# Altium footprint library QF.PcbLib: 196 footprints (part 6 of 13)
Each footprint in its own frame and in the unit in brackets; x right, y up, seen from the top. Pads: shape width x height; smd on the part's side, far side on the other; paste and mask are expansions set on the pad; w line width, h text height; cw(c..) or ccw(c..) is an arc to the next point about the centre after c.
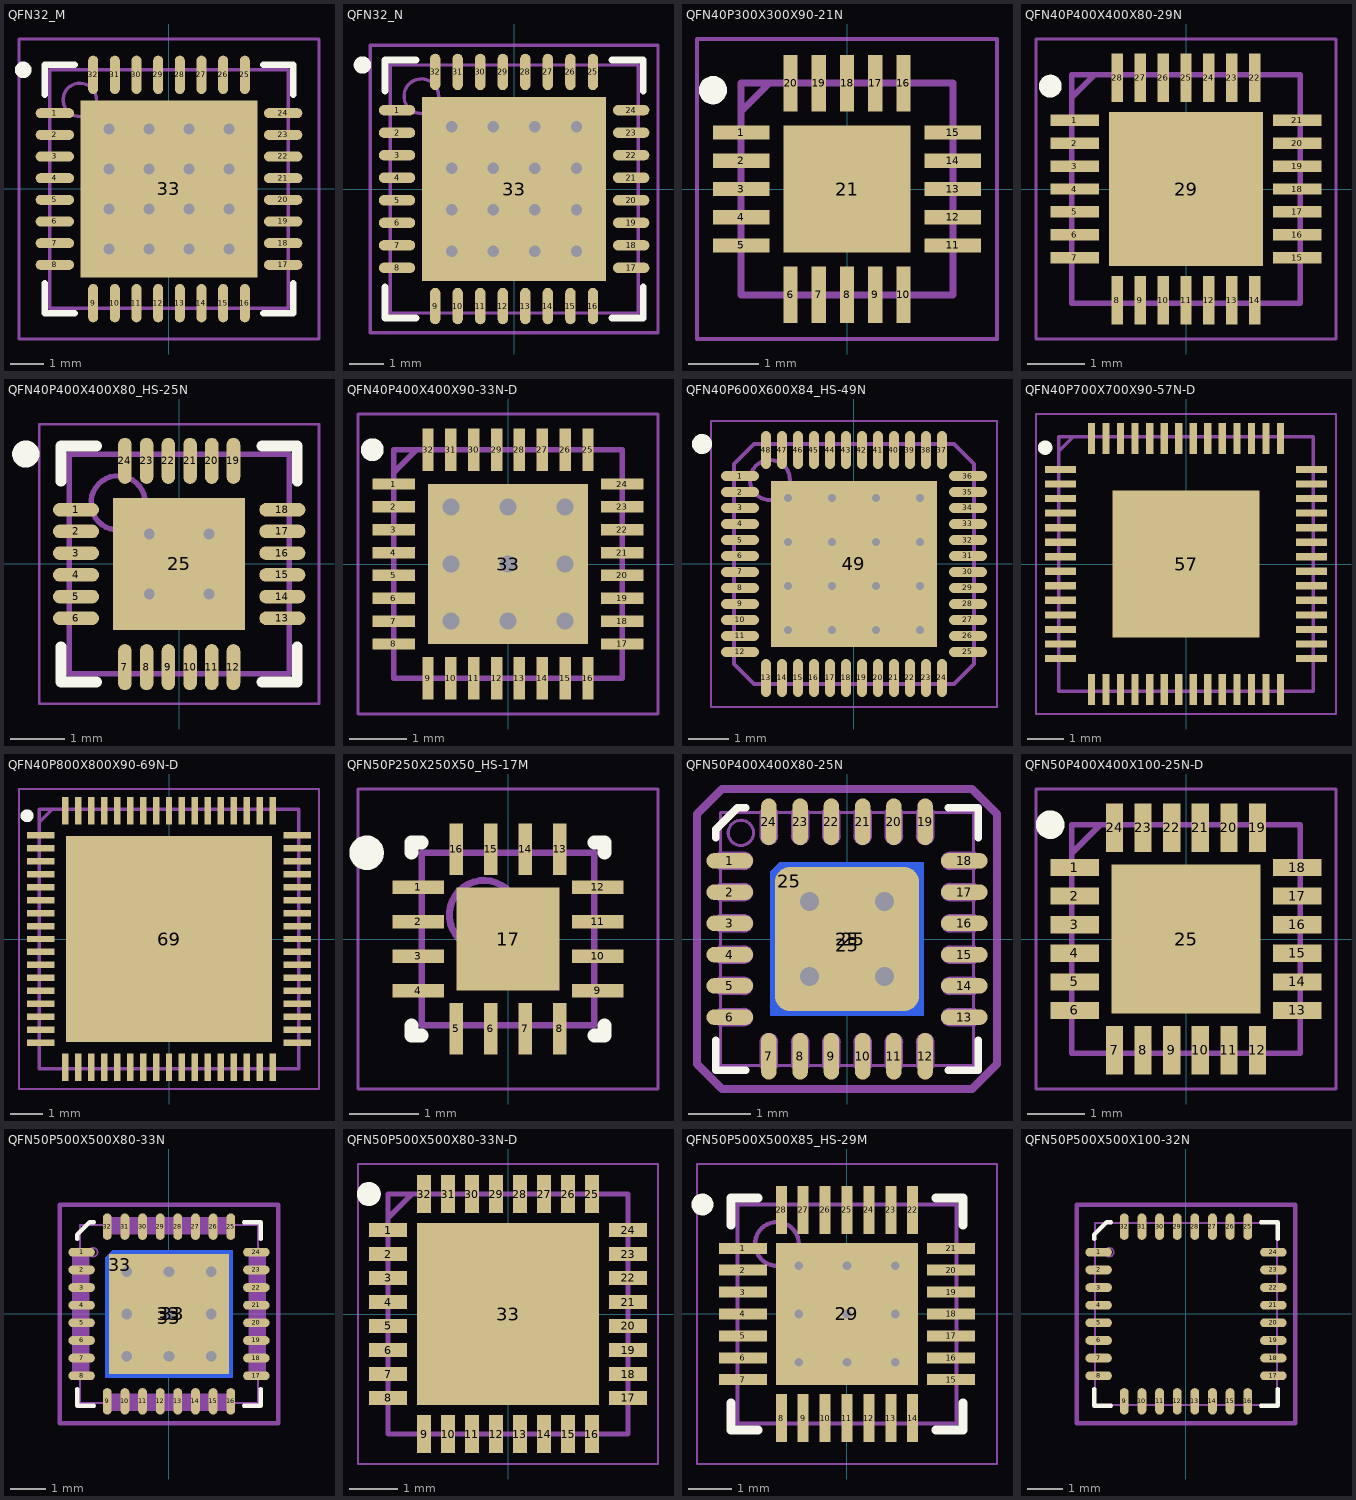
[diagram p5: the footprints below, top view; thin cyan lines are the x and y axes]

## QFN32_M [mm] "QFN, 32-Leads, Body 7x7 mm, Pitch 0.65mm, IPC Low Density"
height 1
pads (33):
  oval 1.15x0.3 smd: 1(-3.425,2.275) 2(-3.425,1.625) 3(-3.425,0.975) 4(-3.425,0.325) 5(-3.425,-0.325) 6(-3.425,-0.975) 7(-3.425,-1.625) 8(-3.425,-2.275) 17(3.425,-2.275) 18(3.425,-1.625) 19(3.425,-0.975) 20(3.425,-0.325) 21(3.425,0.325) 22(3.425,0.975) 23(3.425,1.625) 24(3.425,2.275)
  oval 0.3x1.15 smd: 9(-2.275,-3.425) 10(-1.625,-3.425) 11(-0.975,-3.425) 12(-0.325,-3.425) 13(0.325,-3.425) 14(0.975,-3.425) 15(1.625,-3.425) 16(2.275,-3.425) 25(2.275,3.425) 26(1.625,3.425) 27(0.975,3.425) 28(0.325,3.425) 29(-0.325,3.425) 30(-0.975,3.425) 31(-1.625,3.425) 32(-2.275,3.425)
  rect 5.3x5.3 smd: 33(0,0)
via -1.8,1.8 diameter 0.66 hole 0.33
via -0.6,1.8 diameter 0.66 hole 0.33
via 0.6,1.8 diameter 0.66 hole 0.33
via 1.8,1.8 diameter 0.66 hole 0.33
via -1.8,0.6 diameter 0.66 hole 0.33
via -0.6,0.6 diameter 0.66 hole 0.33
via 0.6,0.6 diameter 0.66 hole 0.33
via 1.8,0.6 diameter 0.66 hole 0.33
via -1.8,-0.6 diameter 0.66 hole 0.33
via -0.6,-0.6 diameter 0.66 hole 0.33
via 0.6,-0.6 diameter 0.66 hole 0.33
via 1.8,-0.6 diameter 0.66 hole 0.33
via -1.8,-1.8 diameter 0.66 hole 0.33
via -0.6,-1.8 diameter 0.66 hole 0.33
via 0.6,-1.8 diameter 0.66 hole 0.33
via 1.8,-1.8 diameter 0.66 hole 0.33
Top Overlay:
  circle w0.25: c-4.375,3.575 r0.125
  lines w0.2: -3.725,-2.825 -3.725,-3.725 -2.825,-3.725 ; -3.725,2.825 -3.725,3.725 -2.825,3.725 ; 2.825,-3.725 3.725,-3.725 3.725,-2.825 ; 2.825,3.725 3.725,3.725 3.725,2.825
Mechanical 13:
  circle w0.1: c-2.675,2.675 r0.5
  lines w0.1: -3.575,-3.575 -3.575,3.575 3.575,3.575 3.575,-3.575 -3.575,-3.575
Mechanical 15:
  lines w0.1: -0.5,0 0.5,0 ; 0,-0.5 0,0.5 ; -4.5,-4.5 -4.5,4.5 4.5,4.5 4.5,-4.5 -4.5,-4.5
3D body: height 1, standoff 0, extent -3.575,-3.575 3.575,3.575

## QFN32_N [mm] "QFN, 32-Leads, Body 7x7 mm, Pitch 0.65mm, IPC Medium Density"
height 1
pads (33):
  oval 1.05x0.3 smd: 1(-3.375,2.275) 2(-3.375,1.625) 3(-3.375,0.975) 4(-3.375,0.325) 5(-3.375,-0.325) 6(-3.375,-0.975) 7(-3.375,-1.625) 8(-3.375,-2.275) 17(3.375,-2.275) 18(3.375,-1.625) 19(3.375,-0.975) 20(3.375,-0.325) 21(3.375,0.325) 22(3.375,0.975) 23(3.375,1.625) 24(3.375,2.275)
  oval 0.3x1.05 smd: 9(-2.275,-3.375) 10(-1.625,-3.375) 11(-0.975,-3.375) 12(-0.325,-3.375) 13(0.325,-3.375) 14(0.975,-3.375) 15(1.625,-3.375) 16(2.275,-3.375) 25(2.275,3.375) 26(1.625,3.375) 27(0.975,3.375) 28(0.325,3.375) 29(-0.325,3.375) 30(-0.975,3.375) 31(-1.625,3.375) 32(-2.275,3.375)
  rect 5.3x5.3 smd: 33(0,0)
via 1.8,-1.8 diameter 0.66 hole 0.33
via 0.6,-1.8 diameter 0.66 hole 0.33
via -0.6,-1.8 diameter 0.66 hole 0.33
via -1.8,-1.8 diameter 0.66 hole 0.33
via 1.8,-0.6 diameter 0.66 hole 0.33
via 0.6,-0.6 diameter 0.66 hole 0.33
via -0.6,-0.6 diameter 0.66 hole 0.33
via -1.8,-0.6 diameter 0.66 hole 0.33
via 1.8,0.6 diameter 0.66 hole 0.33
via 0.6,0.6 diameter 0.66 hole 0.33
via -0.6,0.6 diameter 0.66 hole 0.33
via -1.8,0.6 diameter 0.66 hole 0.33
via 1.8,1.8 diameter 0.66 hole 0.33
via 0.6,1.8 diameter 0.66 hole 0.33
via -0.6,1.8 diameter 0.66 hole 0.33
via -1.8,1.8 diameter 0.66 hole 0.33
Top Overlay:
  circle w0.25: c-4.375,3.575 r0.125
  lines w0.2: -3.725,-2.825 -3.725,-3.725 -2.825,-3.725 ; -3.725,2.825 -3.725,3.725 -2.825,3.725 ; 2.825,-3.725 3.725,-3.725 3.725,-2.825 ; 2.825,3.725 3.725,3.725 3.725,2.825
Mechanical 13:
  circle w0.1: c-2.675,2.675 r0.5
  lines w0.1: -3.575,-3.575 3.575,-3.575 3.575,3.575 -3.575,3.575 -3.575,-3.575
Mechanical 15:
  lines w0.1: -0.5,0 0.5,0 ; 0,-0.5 0,0.5 ; -4.15,-4.15 4.15,-4.15 4.15,4.15 -4.15,4.15 -4.15,-4.15
3D body: height 1, standoff 0, extent -3.575,-3.575 3.575,3.575

## QFN40P300X300X90-21N [mm]
pads (21):
  rect 0.8x0.2 smd: 1(-1.5,0.8) 2(-1.5,0.4) 3(-1.5,0) 4(-1.5,-0.4) 5(-1.5,-0.8) 11(1.5,-0.8) 12(1.5,-0.4) 13(1.5,0) 14(1.5,0.4) 15(1.5,0.8)
  rect 0.2x0.8 smd: 6(-0.8,-1.5) 7(-0.4,-1.5) 8(0,-1.5) 9(0.4,-1.5) 10(0.8,-1.5) 16(0.8,1.5) 17(0.4,1.5) 18(0,1.5) 19(-0.4,1.5) 20(-0.8,1.5)
  rect 1.8x1.8 smd: 21(0,0)
Top Overlay:
  circle w0.2: c-1.9,1.4 r0.1
Mechanical 13:
  lines w0.1: -1.5,1.1 -1.1,1.5 ; -1.5,-1.5 -1.5,1.5 1.5,1.5 1.5,-1.5 -1.5,-1.5
Mechanical 15:
  lines w0.05: -2.125,-2.125 -2.125,2.125 2.125,2.125 2.125,-2.125 -2.125,-2.125
3D body "ATTINY1616-MNR.stp": height 0.9, standoff 0, extent -1.55,-1.55 1.55,1.55

## QFN40P400X400X80-29N [mm]
pads (29):
  rect 0.85x0.2 smd: 1(-1.95,1.2) 2(-1.95,0.8) 3(-1.95,0.4) 4(-1.95,0) 5(-1.95,-0.4) 6(-1.95,-0.8) 7(-1.95,-1.2) 15(1.95,-1.2) 16(1.95,-0.8) 17(1.95,-0.4) 18(1.95,0) 19(1.95,0.4) 20(1.95,0.8) 21(1.95,1.2)
  rect 0.2x0.85 smd: 8(-1.2,-1.95) 9(-0.8,-1.95) 10(-0.4,-1.95) 11(0,-1.95) 12(0.4,-1.95) 13(0.8,-1.95) 14(1.2,-1.95) 22(1.2,1.95) 23(0.8,1.95) 24(0.4,1.95) 25(0,1.95) 26(-0.4,1.95) 27(-0.8,1.95) 28(-1.2,1.95)
  rect 2.7x2.7 smd: 29(0,0)
Top Overlay:
  circle w0.2: c-2.375,1.8 r0.1
Mechanical 13:
  lines w0.1: -2,1.6 -1.6,2 ; -2,-2 2,-2 2,2 -2,2 -2,-2
Mechanical 15:
  lines w0.05: -2.625,-2.625 2.625,-2.625 2.625,2.625 -2.625,2.625 -2.625,-2.625
3D body "MAX8903AETI+.stp": height 0.8, standoff 0, extent -2.05,-2.05 2.05,2.05

## QFN40P400X400X80_HS-25N [mm] "QFN, 24-Leads, Body 4,00x4,00mm, Pitch 0,40mm, Thermal Pad 2,43x2,43mm, IPC Medium Density"
height 0.8
pads (25):
  oval 0.85x0.25 smd: 1(-1.9,1) 2(-1.9,0.6) 3(-1.9,0.2) 4(-1.9,-0.2) 5(-1.9,-0.6) 6(-1.9,-1) 13(1.9,-1) 14(1.9,-0.6) 15(1.9,-0.2) 16(1.9,0.2) 17(1.9,0.6) 18(1.9,1)
  oval 0.25x0.85 smd: 7(-1,-1.9) 8(-0.6,-1.9) 9(-0.2,-1.9) 10(0.2,-1.9) 11(0.6,-1.9) 12(1,-1.9) 19(1,1.9) 20(0.6,1.9) 21(0.2,1.9) 22(-0.2,1.9) 23(-0.6,1.9) 24(-1,1.9)
  rect 2.43x2.43 smd: 25(0,0)
via -0.55,0.55 diameter 0.5 hole 0.2
via 0.55,0.55 diameter 0.5 hole 0.2
via -0.55,-0.55 diameter 0.5 hole 0.2
via 0.55,-0.55 diameter 0.5 hole 0.2
Top Overlay:
  circle w0.25: c-2.825,2.025 r0.125
  lines w0.2: -2.175,-1.525 -2.175,-2.175 -1.525,-2.175 ; -2.175,1.525 -2.175,2.175 -1.525,2.175 ; 1.525,-2.175 2.175,-2.175 2.175,-1.525 ; 1.525,2.175 2.175,2.175 2.175,1.525
Mechanical 13:
  circle w0.1: c-1.125,1.125 r0.5
  lines w0.1: -2.025,-2.025 -2.025,2.025 2.025,2.025 2.025,-2.025 -2.025,-2.025
Mechanical 15:
  lines w0.05: -2.575,-2.575 -2.575,2.575 2.575,2.575 2.575,-2.575 -2.575,-2.575
  lines w0.1: -0.5,0 0.5,0 ; 0,-0.5 0,0.5
3D body "QFN40P400X400X80_HS-25N.step": height 0.8, standoff 0, extent -2.035,-2.035 2.035,2.035

## QFN40P400X400X90-33N-D [mm]
pads (33):
  rect 0.75x0.2 smd: 1(-2,1.4) 2(-2,1) 3(-2,0.6) 4(-2,0.2) 5(-2,-0.2) 6(-2,-0.6) 7(-2,-1) 8(-2,-1.4) 17(2,-1.4) 18(2,-1) 19(2,-0.6) 20(2,-0.2) 21(2,0.2) 22(2,0.6) 23(2,1) 24(2,1.4)
  rect 0.2x0.75 smd: 9(-1.4,-2) 10(-1,-2) 11(-0.6,-2) 12(-0.2,-2) 13(0.2,-2) 14(0.6,-2) 15(1,-2) 16(1.4,-2) 25(1.4,2) 26(1,2) 27(0.6,2) 28(0.2,2) 29(-0.2,2) 30(-0.6,2) 31(-1,2) 32(-1.4,2)
  rect 2.8x2.8 smd: 33(0,0)
via 0,0 diameter 0.6 hole 0.3
via 0,1 diameter 0.6 hole 0.3
via 1,0 diameter 0.6 hole 0.3
via 1,-1 diameter 0.6 hole 0.3
via 0,-1 diameter 0.6 hole 0.3
via -1,-1 diameter 0.6 hole 0.3
via -1,0 diameter 0.6 hole 0.3
via -1,1 diameter 0.6 hole 0.3
via 1,1 diameter 0.6 hole 0.3
Top Overlay:
  circle w0.2: c-2.375,2 r0.1
Mechanical 13:
  lines w0.1: -2,1.6 -1.6,2 ; -2,-2 -2,2 2,2 2,-2 -2,-2
Mechanical 15:
  lines w0.05: -2.625,-2.625 -2.625,2.625 2.625,2.625 2.625,-2.625 -2.625,-2.625
3D body "EFR32MG21B010F512IM32-B.stp": height 0.9, standoff 0, extent -2.05,-2.05 2.05,2.05

## QFN40P600X600X84_HS-49N [mm] "QFN, 48-Leads, Body 6,00x6,00mm, Pitch 0,40mm, Thermal Pad 4,14x4,14mm, IPC Medium Density"
height 0.84
pads (49):
  oval 0.95x0.25 smd: 1(-2.85,2.2) 2(-2.85,1.8) 3(-2.85,1.4) 4(-2.85,1) 5(-2.85,0.6) 6(-2.85,0.2) 7(-2.85,-0.2) 8(-2.85,-0.6) 9(-2.85,-1) 10(-2.85,-1.4) 11(-2.85,-1.8) 12(-2.85,-2.2) 25(2.85,-2.2) 26(2.85,-1.8) 27(2.85,-1.4) 28(2.85,-1) 29(2.85,-0.6) 30(2.85,-0.2) 31(2.85,0.2) 32(2.85,0.6) 33(2.85,1) 34(2.85,1.4) 35(2.85,1.8) 36(2.85,2.2)
  oval 0.25x0.95 smd: 13(-2.2,-2.85) 14(-1.8,-2.85) 15(-1.4,-2.85) 16(-1,-2.85) 17(-0.6,-2.85) 18(-0.2,-2.85) 19(0.2,-2.85) 20(0.6,-2.85) 21(1,-2.85) 22(1.4,-2.85) 23(1.8,-2.85) 24(2.2,-2.85) 37(2.2,2.85) 38(1.8,2.85) 39(1.4,2.85) 40(1,2.85) 41(0.6,2.85) 42(0.2,2.85) 43(-0.2,2.85) 44(-0.6,2.85) 45(-1,2.85) 46(-1.4,2.85) 47(-1.8,2.85) 48(-2.2,2.85)
  rect 4.14x4.14 smd: 49(0,0)
via 1.65,-1.65 diameter 0.5 hole 0.2
via 0.55,-1.65 diameter 0.5 hole 0.2
via -0.55,-1.65 diameter 0.5 hole 0.2
via -1.65,-1.65 diameter 0.5 hole 0.2
via 1.65,-0.55 diameter 0.5 hole 0.2
via 0.55,-0.55 diameter 0.5 hole 0.2
via -0.55,-0.55 diameter 0.5 hole 0.2
via -1.65,-0.55 diameter 0.5 hole 0.2
via 1.65,0.55 diameter 0.5 hole 0.2
via 0.55,0.55 diameter 0.5 hole 0.2
via -0.55,0.55 diameter 0.5 hole 0.2
via -1.65,0.55 diameter 0.5 hole 0.2
via 1.65,1.65 diameter 0.5 hole 0.2
via 0.55,1.65 diameter 0.5 hole 0.2
via -0.55,1.65 diameter 0.5 hole 0.2
via -1.65,1.65 diameter 0.5 hole 0.2
Top Overlay:
  circle w0.25: c-3.8,3 r0.125
Mechanical 13:
  circle w0.1: c-2.1,2.1 r0.5
  lines w0.1: -3,-2.5 -3,2.5 -2.5,3 2.5,3 3,2.5 3,-2.5 2.5,-3 -2.5,-3 -3,-2.5
Mechanical 15:
  lines w0.05: -3.575,-3.575 3.575,-3.575 3.575,3.575 -3.575,3.575 -3.575,-3.575
  lines w0.1: -0.5,0 0.5,0 ; 0,-0.5 0,0.5
3D body "QFN40P600X600X84_HS-49N.step": height 0.84, standoff 0, extent -3.01,-3.01 3.01,3.01

## QFN40P700X700X90-57N-D [mm]
pads (57):
  rect 0.85x0.2 smd: 1(-3.45,2.6) 2(-3.45,2.2) 3(-3.45,1.8) 4(-3.45,1.4) 5(-3.45,1) 6(-3.45,0.6) 7(-3.45,0.2) 8(-3.45,-0.2) 9(-3.45,-0.6) 10(-3.45,-1) 11(-3.45,-1.4) 12(-3.45,-1.8) 13(-3.45,-2.2) 14(-3.45,-2.6) 29(3.45,-2.6) 30(3.45,-2.2) 31(3.45,-1.8) 32(3.45,-1.4) 33(3.45,-1) 34(3.45,-0.6) 35(3.45,-0.2) 36(3.45,0.2) 37(3.45,0.6) 38(3.45,1) 39(3.45,1.4) 40(3.45,1.8) 41(3.45,2.2) 42(3.45,2.6)
  rect 0.2x0.85 smd: 15(-2.6,-3.45) 16(-2.2,-3.45) 17(-1.8,-3.45) 18(-1.4,-3.45) 19(-1,-3.45) 20(-0.6,-3.45) 21(-0.2,-3.45) 22(0.2,-3.45) 23(0.6,-3.45) 24(1,-3.45) 25(1.4,-3.45) 26(1.8,-3.45) 27(2.2,-3.45) 28(2.6,-3.45) 43(2.6,3.45) 44(2.2,3.45) 45(1.8,3.45) 46(1.4,3.45) 47(1,3.45) 48(0.6,3.45) 49(0.2,3.45) 50(-0.2,3.45) 51(-0.6,3.45) 52(-1,3.45) 53(-1.4,3.45) 54(-1.8,3.45) 55(-2.2,3.45) 56(-2.6,3.45)
  rect 4.05x4.05 smd: 57(0,0)
Top Overlay:
  circle w0.2: c-3.875,3.2 r0.1
Mechanical 13:
  lines w0.1: -3.5,3.1 -3.1,3.5 ; -3.5,-3.5 3.5,-3.5 3.5,3.5 -3.5,3.5 -3.5,-3.5
Mechanical 15:
  lines w0.05: -4.125,-4.125 4.125,-4.125 4.125,4.125 -4.125,4.125 -4.125,-4.125
3D body "ESP32-S3R8V.stp": height 0.9, standoff 0, extent -3.55,-3.55 3.55,3.55

## QFN40P800X800X90-69N-D [mm]
pads (69):
  rect 0.85x0.2 smd: 1(-3.95,3.2) 2(-3.95,2.8) 3(-3.95,2.4) 4(-3.95,2) 5(-3.95,1.6) 6(-3.95,1.2) 7(-3.95,0.8) 8(-3.95,0.4) 9(-3.95,0) 10(-3.95,-0.4) 11(-3.95,-0.8) 12(-3.95,-1.2) 13(-3.95,-1.6) 14(-3.95,-2) 15(-3.95,-2.4) 16(-3.95,-2.8) 17(-3.95,-3.2) 35(3.95,-3.2) 36(3.95,-2.8) 37(3.95,-2.4) 38(3.95,-2) 39(3.95,-1.6) 40(3.95,-1.2) 41(3.95,-0.8) 42(3.95,-0.4) 43(3.95,0) 44(3.95,0.4) 45(3.95,0.8) 46(3.95,1.2) 47(3.95,1.6) 48(3.95,2) 49(3.95,2.4) 50(3.95,2.8) 51(3.95,3.2)
  rect 0.2x0.85 smd: 18(-3.2,-3.95) 19(-2.8,-3.95) 20(-2.4,-3.95) 21(-2,-3.95) 22(-1.6,-3.95) 23(-1.2,-3.95) 24(-0.8,-3.95) 25(-0.4,-3.95) 26(0,-3.95) 27(0.4,-3.95) 28(0.8,-3.95) 29(1.2,-3.95) 30(1.6,-3.95) 31(2,-3.95) 32(2.4,-3.95) 33(2.8,-3.95) 34(3.2,-3.95) 52(3.2,3.95) 53(2.8,3.95) 54(2.4,3.95) 55(2,3.95) 56(1.6,3.95) 57(1.2,3.95) 58(0.8,3.95) 59(0.4,3.95) 60(0,3.95) 61(-0.4,3.95) 62(-0.8,3.95) 63(-1.2,3.95) 64(-1.6,3.95) 65(-2,3.95) 66(-2.4,3.95) 67(-2.8,3.95) 68(-3.2,3.95)
  rect 6.35x6.35 smd: 69(0,0)
Top Overlay:
  circle w0.2: c-4.375,3.8 r0.1
Mechanical 13:
  lines w0.1: -4,3.6 -3.6,4 ; -4,-4 -4,4 4,4 4,-4 -4,-4
Mechanical 15:
  lines w0.05: -4.625,-4.625 -4.625,4.625 4.625,4.625 4.625,-4.625 -4.625,-4.625
3D body "EFR32FG12P433F1024GM68-C.stp": height 0.9, standoff 0, extent -4.05,-4.05 4.05,4.05

## QFN50P250X250X50_HS-17M [mm] "QFN, 16-Leads, Body 2,50x2,50mm, Pitch 0,50mm, Thermal Pad 1,50x1,50mm, IPC Low Density"
height 0.5
pads (17):
  rect 0.75x0.2 smd: 1(-1.3,0.75) 2(-1.3,0.25) 3(-1.3,-0.25) 4(-1.3,-0.75) 9(1.3,-0.75) 10(1.3,-0.25) 11(1.3,0.25) 12(1.3,0.75)
  rect 0.2x0.75 smd: 5(-0.75,-1.3) 6(-0.25,-1.3) 7(0.25,-1.3) 8(0.75,-1.3) 13(0.75,1.3) 14(0.25,1.3) 15(-0.25,1.3) 16(-0.75,1.3)
  rect 1.5x1.5 smd: 17(0,0)
Top Overlay:
  circle w0.25: c-2.05,1.25 r0.125
  lines w0.2: -1.4,-1.25 -1.4,-1.4 -1.25,-1.4 ; -1.4,1.25 -1.4,1.4 -1.25,1.4 ; 1.25,-1.4 1.4,-1.4 1.4,-1.25 ; 1.25,1.4 1.4,1.4 1.4,1.25
Mechanical 13:
  circle w0.1: c-0.35,0.35 r0.5
  lines w0.1: -1.25,-1.25 -1.25,1.25 1.25,1.25 1.25,-1.25 -1.25,-1.25
Mechanical 15:
  lines w0.05: -2.175,-2.175 -2.175,2.175 2.175,2.175 2.175,-2.175 -2.175,-2.175
  lines w0.1: -0.5,0 0.5,0 ; 0,-0.5 0,0.5
3D body "QFN50P250X250X50_HS-17M.step": height 0.5, standoff 0, extent -1.3,-1.3 1.3,1.3

## QFN50P400X400X80-25N [mm] "QFN, 24-Leads with exposed die pad, Body 4.05x4.05mm (max), Pitch 0.50mm, IPC Medium Density"
height 0.8
pads (28):
  oval 0.75x0.25 smd mask+0.075: 1(-1.875,1.25) 2(-1.875,0.75) 3(-1.875,0.25) 4(-1.875,-0.25) 5(-1.875,-0.75) 6(-1.875,-1.25) 13(1.875,-1.25) 14(1.875,-0.75) 15(1.875,-0.25) 16(1.875,0.25) 17(1.875,0.75) 18(1.875,1.25)
  oval 0.25x0.75 smd mask+0.075: 7(-1.25,-1.875) 8(-0.75,-1.875) 9(-0.25,-1.875) 10(0.25,-1.875) 11(0.75,-1.875) 12(1.25,-1.875) 19(1.25,1.875) 20(0.75,1.875) 21(0.25,1.875) 22(-0.25,1.875) 23(-0.75,1.875) 24(-1.25,1.875)
  oct 0.6x0.6 smd far side paste-1.7: 25(-0.925,0.925)
  rrect1% 2.45x2.25 smd far side paste-1.7: 25(0,-0.1)
  rrect20% 2.3x2.3 smd paste-1.7: 25(0,0)
  rrect1% 2.25x2.45 smd far side paste-1.7: 25(0.1,0)
via -0.6,-0.6 diameter 0.4 hole 0.3
via 0.6,-0.6 diameter 0.4 hole 0.3
via 0.6,0.6 diameter 0.4 hole 0.3
via -0.6,0.6 diameter 0.4 hole 0.3
Top Layer:
  region: 1.025,-1.225 1.225,-1.225 1.225,1.225 1.025,1.225
  region: 1.225,-1.225 1.225,-1.025 -1.225,-1.025 -1.225,-1.225
  region: -1.225,1.075 -1.075,1.225 1.225,1.225 1.225,1.075
  region: -1.075,1.225 -1.225,1.075 -1.225,-1.225 -1.075,-1.225
Top Overlay:
  lines w0.127: -2.1,-1.625 -2.1,-2.1 -1.625,-2.1 ; -2.1,1.625 -2.1,1.75 -1.75,2.1 -1.625,2.1 ; 1.625,-2.1 2.1,-2.1 2.1,-1.625 ; 1.625,2.1 2.1,2.1 2.1,1.625
  text "." at -2.63,1.25 h0.05
Top Paste:
  region: -1.1,-0.3 -1.1,0.3 -1,0.4 -0.5,0.4 -0.4,0.5 -0.4,1 -0.3,1.1 0.3,1.1 0.4,1 0.4,0.5 0.5,0.4 1,0.4 1.1,0.3 1.1,-0.3 1,-0.4 0.5,-0.4 0.4,-0.5 0.4,-1 0.3,-1.1 -0.3,-1.1 -0.4,-1 -0.4,-0.5 -0.5,-0.4 -1,-0.4
Bottom Paste:
  region: 0.2,1 -0.2,1 -0.4,0.8 -0.4,0.5 -0.5,0.4 -0.8,0.4 -1,0.2 -1,-0.2 -0.8,-0.4 -0.5,-0.4 -0.4,-0.5 -0.4,-0.8 -0.2,-1 0.2,-1 0.4,-0.8 0.4,-0.5 0.5,-0.4 0.8,-0.4 1,-0.2 1,0.2 0.8,0.4 0.5,0.4 0.4,0.5 0.4,0.8
Top Solder:
  circle w0.4: c-0.6,-0.6 r0.4
  circle w0.4: c0.6,-0.6 r0.4
  circle w0.4: c0.6,0.6 r0.4
  circle w0.4: c-0.6,0.6 r0.4
  rectangle: -0.3,-1.225 0.3,1.2
  region: 1.225,-0.3 1.225,0.3 -1.2,0.3 -1.2,-0.3
Mechanical 13:
  circle w0.05: c-1.698,1.698 r0.202
  lines w0.05: -2.025,-1.375 -2.025,-2.025 -1.375,-2.025 ; -2.025,-1.125 -2.025,-0.875 ; -2.025,-0.625 -2.025,-0.375 ; -2.025,-0.125 -2.025,0.125 ; -2.025,0.375 -2.025,0.625 ; -2.025,0.875 -2.025,1.125 ; -2.025,1.375 -2.025,2.025 -1.375,2.025 ; -1.125,-2.025 -0.875,-2.025 ; -1.125,2.025 -0.875,2.025 ; -0.625,-2.025 -0.375,-2.025 ; -0.625,2.025 -0.375,2.025 ; -0.125,-2.025 0.125,-2.025 ; -0.125,2.025 0.125,2.025 ; 0.375,-2.025 0.625,-2.025 ; 0.375,2.025 0.625,2.025 ; 0.875,-2.025 1.125,-2.025 ; 0.875,2.025 1.125,2.025 ; 1.375,-2.025 2.025,-2.025 2.025,-1.375 ; 1.375,2.025 2.025,2.025 2.025,1.375 ; 2.025,-1.125 2.025,-0.875 ; 2.025,-0.625 2.025,-0.375 ; 2.025,-0.125 2.025,0.125 ; 2.025,0.375 2.025,0.625 ; 2.025,0.875 2.025,1.125 ; -2.045,-1.375 -1.65,-1.375 ccw(c-1.65,-1.25) -1.65,-1.125 -2.045,-1.125 -2.045,-1.375 ; -2.045,-0.875 -1.65,-0.875 ccw(c-1.65,-0.75) -1.65,-0.625 -2.045,-0.625 -2.045,-0.875 ; -2.045,-0.375 -1.65,-0.375 ccw(c-1.65,-0.25) -1.65,-0.125 -2.045,-0.125 -2.045,-0.375 ; -2.045,0.125 -1.65,0.125 ccw(c-1.65,0.25) -1.65,0.375 -2.045,0.375 -2.045,0.125 ; -2.045,0.625 -1.65,0.625 ccw(c-1.65,0.75) -1.65,0.875 -2.045,0.875 -2.045,0.625 ; -2.045,1.125 -1.65,1.125 ccw(c-1.65,1.25) -1.65,1.375 -2.045,1.375 -2.045,1.125 ; -1.375,-2.045 -1.375,-1.65 cw(c-1.25,-1.65) -1.125,-1.65 -1.125,-2.045 -1.375,-2.045 ; -1.375,1.65 ccw(c-1.25,1.65) -1.125,1.65 -1.125,2.045 -1.375,2.045 -1.375,1.65 ; -0.875,-2.045 -0.875,-1.65 cw(c-0.75,-1.65) -0.625,-1.65 -0.625,-2.045 -0.875,-2.045 ; -0.875,1.65 ccw(c-0.75,1.65) -0.625,1.65 -0.625,2.045 -0.875,2.045 -0.875,1.65 ; -0.375,-2.045 -0.375,-1.65 cw(c-0.25,-1.65) -0.125,-1.65 -0.125,-2.045 -0.375,-2.045 ; -0.375,1.65 ccw(c-0.25,1.65) -0.125,1.65 -0.125,2.045 -0.375,2.045 -0.375,1.65 ; 0.125,-2.045 0.125,-1.65 cw(c0.25,-1.65) 0.375,-1.65 0.375,-2.045 0.125,-2.045 ; 0.125,1.65 ccw(c0.25,1.65) 0.375,1.65 0.375,2.045 0.125,2.045 0.125,1.65 ; 0.625,-2.045 0.625,-1.65 cw(c0.75,-1.65) 0.875,-1.65 0.875,-2.045 0.625,-2.045 ; 0.625,1.65 ccw(c0.75,1.65) 0.875,1.65 0.875,2.045 0.625,2.045 0.625,1.65 ; 1.125,-2.045 1.125,-1.65 cw(c1.25,-1.65) 1.375,-1.65 1.375,-2.045 1.125,-2.045 ; 1.125,1.65 ccw(c1.25,1.65) 1.375,1.65 1.375,2.045 1.125,2.045 1.125,1.65 ; 1.65,-1.375 cw(c1.65,-1.25) 1.65,-1.125 2.045,-1.125 2.045,-1.375 1.65,-1.375 ; 1.65,-0.875 cw(c1.65,-0.75) 1.65,-0.625 2.045,-0.625 2.045,-0.875 1.65,-0.875 ; 1.65,-0.375 cw(c1.65,-0.25) 1.65,-0.125 2.045,-0.125 2.045,-0.375 1.65,-0.375 ; 1.65,0.125 cw(c1.65,0.25) 1.65,0.375 2.045,0.375 2.045,0.125 1.65,0.125 ; 1.65,0.625 cw(c1.65,0.75) 1.65,0.875 2.045,0.875 2.045,0.625 1.65,0.625 ; 1.65,1.125 cw(c1.65,1.25) 1.65,1.375 2.045,1.375 2.045,1.125 1.65,1.125
Mechanical 15:
  lines w0.127: -2.4,-2 -2.4,2 -2,2.4 2,2.4 2.4,2 2.4,-2 2,-2.4 -2,-2.4 -2.4,-2
3D body "QFN50P400X400X80-25N.STEP": height 0.8, standoff 0, extent -2.045,-2.045 2.045,2.045

## QFN50P400X400X100-25N-D [mm]
pads (25):
  rect 0.85x0.3 smd: 1(-1.95,1.25) 2(-1.95,0.75) 3(-1.95,0.25) 4(-1.95,-0.25) 5(-1.95,-0.75) 6(-1.95,-1.25) 13(1.95,-1.25) 14(1.95,-0.75) 15(1.95,-0.25) 16(1.95,0.25) 17(1.95,0.75) 18(1.95,1.25)
  rect 0.3x0.85 smd: 7(-1.25,-1.95) 8(-0.75,-1.95) 9(-0.25,-1.95) 10(0.25,-1.95) 11(0.75,-1.95) 12(1.25,-1.95) 19(1.25,1.95) 20(0.75,1.95) 21(0.25,1.95) 22(-0.25,1.95) 23(-0.75,1.95) 24(-1.25,1.95)
  rect 2.6x2.6 smd: 25(0,0)
Top Overlay:
  circle w0.25: c-2.375,2 r0.125
Mechanical 13:
  lines w0.1: -2,1.5 -1.5,2 ; -2,-2 2,-2 2,2 -2,2 -2,-2
Mechanical 15:
  lines w0.05: -2.625,-2.625 2.625,-2.625 2.625,2.625 -2.625,2.625 -2.625,-2.625
3D body "USB2422-I_MJ.stp": height 1, standoff 0, extent -2.05,-2.05 2.05,2.05

## QFN50P500X500X80-33N [mm] "QFN, 32-Leads with exposed die pad, Body 5.1x5.1mm (max), Pitch 0.50mm, IPC Medium Density"
height 0.8
pads (36):
  oval 0.75x0.25 smd mask+0.075: 1(-2.475,1.75) 2(-2.475,1.25) 3(-2.475,0.75) 4(-2.475,0.25) 5(-2.475,-0.25) 6(-2.475,-0.75) 7(-2.475,-1.25) 8(-2.475,-1.75) 17(2.475,-1.75) 18(2.475,-1.25) 19(2.475,-0.75) 20(2.475,-0.25) 21(2.475,0.25) 22(2.475,0.75) 23(2.475,1.25) 24(2.475,1.75)
  oval 0.25x0.75 smd mask+0.075: 9(-1.75,-2.475) 10(-1.25,-2.475) 11(-0.75,-2.475) 12(-0.25,-2.475) 13(0.25,-2.475) 14(0.75,-2.475) 15(1.25,-2.475) 16(1.75,-2.475) 25(1.75,2.475) 26(1.25,2.475) 27(0.75,2.475) 28(0.25,2.475) 29(-0.25,2.475) 30(-0.75,2.475) 31(-1.25,2.475) 32(-1.75,2.475)
  oct 0.8x0.8 smd far side paste-1.7: 33(-1.4,1.4)
  rrect1% 3.6x3.4 smd far side paste-1.7: 33(0,-0.1)
  rect 3.4x3.4 smd paste-1.7: 33(0,0)
  rrect1% 3.4x3.6 smd far side paste-1.7: 33(0.1,0)
via -1.2,1.2 diameter 0.4 hole 0.3
via 1.2,1.2 diameter 0.4 hole 0.3
via 1.2,-1.2 diameter 0.4 hole 0.3
via -1.2,-1.2 diameter 0.4 hole 0.3
via -1.2,0 diameter 0.4 hole 0.3
via 0,1.2 diameter 0.4 hole 0.3
via 1.2,0 diameter 0.4 hole 0.3
via 0,-1.2 diameter 0.4 hole 0.3
via 0,0 diameter 0.4 hole 0.3
Top Layer:
  region: 1.6,-1.8 1.8,-1.6 1.8,1.8 1.6,1.8
  region: -1.8,-1.6 -1.6,-1.8 1.8,-1.8 1.8,-1.6
  region: -1.6,1.8 -1.8,1.6 -1.8,-1.8 -1.6,-1.8
  region: -1.8,1.6 -1.6,1.8 1.8,1.8 1.8,1.6
Top Overlay:
  lines w0.127: -2.6,-2.125 -2.6,-2.6 -2.125,-2.6 ; -2.6,2.125 -2.6,2.25 -2.25,2.6 -2.125,2.6 ; 2.125,-2.6 2.6,-2.6 2.6,-2.125 ; 2.125,2.6 2.6,2.6 2.6,2.125
  text "." at -3.23,1.75 h0.05
Top Paste:
  region: 0.9,1.8 1,1.7 1,1.1 1.1,1 1.7,1 1.8,0.9 1.8,0.3 1.7,0.2 0.3,0.2 0.2,0.3 0.2,1.7 0.3,1.8
  region: 1.8,-0.9 1.7,-1 1.1,-1 1,-1.1 1,-1.7 0.9,-1.8 0.3,-1.8 0.2,-1.7 0.2,-0.3 0.3,-0.2 1.7,-0.2 1.8,-0.3
  region: -0.9,-1.8 -1,-1.7 -1,-1.1 -1.1,-1 -1.7,-1 -1.8,-0.9 -1.8,-0.3 -1.7,-0.2 -0.3,-0.2 -0.2,-0.3 -0.2,-1.7 -0.3,-1.8
  region: -1.8,0.9 -1.7,1 -1.1,1 -1,1.1 -1,1.7 -0.9,1.8 -0.3,1.8 -0.2,1.7 -0.2,0.3 -0.3,0.2 -1.7,0.2 -1.8,0.3
Top Solder:
  circle w0.4: c-1.2,-1.2 r0.4
  circle w0.4: c0,0 r0.4
  circle w0.4: c1.2,-1.2 r0.4
  circle w0.4: c1.2,1.2 r0.4
  circle w0.4: c-1.2,1.2 r0.4
  circle w0.4: c-1.2,0 r0.4
  circle w0.4: c0,1.2 r0.4
  circle w0.4: c1.2,0 r0.4
  circle w0.4: c0,-1.2 r0.4
  region: 1.8,-0.9 1.8,-0.3 -1.8,-0.3 -1.8,-0.9
  region: -1.8,0.9 -1.8,0.3 1.8,0.3 1.8,0.9
  region: 0.9,1.8 0.3,1.8 0.3,-1.8 0.9,-1.8
  rectangle: -0.9,-1.8 -0.3,1.8
Mechanical 3:
  rectangle: -1.75,2.25 1.75,2.75
  region: -2.25,-1.75 -2.25,1.75 -2.75,1.75 -2.75,-1.75
  region: 1.75,-2.25 -1.75,-2.25 -1.75,-2.75 1.75,-2.75
  region: 2.25,1.75 2.25,-1.75 2.75,-1.75 2.75,1.75
Mechanical 13:
  circle w0.05: c-2.148,1.75 r0.125
  lines w0.05: -2.525,-1.875 -2.545,-1.875 -2.545,-1.625 -2.525,-1.625 ; -2.525,-1.375 -2.545,-1.375 -2.545,-1.125 -2.525,-1.125 ; -2.525,-0.875 -2.545,-0.875 -2.545,-0.625 -2.525,-0.625 ; -2.525,-0.375 -2.545,-0.375 -2.545,-0.125 -2.525,-0.125 ; -2.525,0.125 -2.545,0.125 -2.545,0.375 -2.525,0.375 ; -2.525,0.625 -2.545,0.625 -2.545,0.875 -2.525,0.875 ; -2.525,1.125 -2.545,1.125 -2.545,1.375 -2.525,1.375 ; -2.525,1.625 -2.545,1.625 -2.545,1.875 -2.525,1.875 ; -1.875,-2.525 -1.875,-2.545 -1.625,-2.545 -1.625,-2.525 ; -1.875,2.525 -1.875,2.545 -1.625,2.545 -1.625,2.525 ; -1.375,-2.525 -1.375,-2.545 -1.125,-2.545 -1.125,-2.525 ; -1.375,2.525 -1.375,2.545 -1.125,2.545 -1.125,2.525 ; -0.875,-2.525 -0.875,-2.545 -0.625,-2.545 -0.625,-2.525 ; -0.875,2.525 -0.875,2.545 -0.625,2.545 -0.625,2.525 ; -0.375,-2.525 -0.375,-2.545 -0.125,-2.545 -0.125,-2.525 ; -0.375,2.525 -0.375,2.545 -0.125,2.545 -0.125,2.525 ; 0.125,-2.525 0.125,-2.545 0.375,-2.545 0.375,-2.525 ; 0.125,2.525 0.125,2.545 0.375,2.545 0.375,2.525 ; 0.625,-2.525 0.625,-2.545 0.875,-2.545 0.875,-2.525 ; 0.625,2.525 0.625,2.545 0.875,2.545 0.875,2.525 ; 1.125,-2.525 1.125,-2.545 1.375,-2.545 1.375,-2.525 ; 1.125,2.525 1.125,2.545 1.375,2.545 1.375,2.525 ; 1.625,-2.525 1.625,-2.545 1.875,-2.545 1.875,-2.525 ; 1.625,2.525 1.625,2.545 1.875,2.545 1.875,2.525 ; 2.525,-1.875 2.545,-1.875 2.545,-1.625 2.525,-1.625 ; 2.525,-1.375 2.545,-1.375 2.545,-1.125 2.525,-1.125 ; 2.525,-0.875 2.545,-0.875 2.545,-0.625 2.525,-0.625 ; 2.525,-0.375 2.545,-0.375 2.545,-0.125 2.525,-0.125 ; 2.525,0.125 2.545,0.125 2.545,0.375 2.525,0.375 ; 2.525,0.625 2.545,0.625 2.545,0.875 2.525,0.875 ; 2.525,1.125 2.545,1.125 2.545,1.375 2.525,1.375 ; 2.525,1.625 2.545,1.625 2.545,1.875 2.525,1.875 ; -2.525,-2.525 -2.525,2.525 2.525,2.525 2.525,-2.525 -2.525,-2.525
Mechanical 15:
  lines w0.127: -3.1,-3.1 3.1,-3.1 3.1,3.1 -3.1,3.1 -3.1,-3.1
3D body "QFN50P500X500X80-33N.STEP": height 0.8, standoff 0, extent -2.545,-2.545 2.545,2.545

## QFN50P500X500X80-33N-D [mm]
pads (33):
  rect 0.8x0.3 smd: 1(-2.5,1.75) 2(-2.5,1.25) 3(-2.5,0.75) 4(-2.5,0.25) 5(-2.5,-0.25) 6(-2.5,-0.75) 7(-2.5,-1.25) 8(-2.5,-1.75) 17(2.5,-1.75) 18(2.5,-1.25) 19(2.5,-0.75) 20(2.5,-0.25) 21(2.5,0.25) 22(2.5,0.75) 23(2.5,1.25) 24(2.5,1.75)
  rect 0.3x0.8 smd: 9(-1.75,-2.5) 10(-1.25,-2.5) 11(-0.75,-2.5) 12(-0.25,-2.5) 13(0.25,-2.5) 14(0.75,-2.5) 15(1.25,-2.5) 16(1.75,-2.5) 25(1.75,2.5) 26(1.25,2.5) 27(0.75,2.5) 28(0.25,2.5) 29(-0.25,2.5) 30(-0.75,2.5) 31(-1.25,2.5) 32(-1.75,2.5)
  rect 3.8x3.8 smd: 33(0,0)
Top Overlay:
  circle w0.25: c-2.9,2.5 r0.125
Mechanical 13:
  lines w0.1: -2.5,2 -2,2.5 ; -2.5,-2.5 -2.5,2.5 2.5,2.5 2.5,-2.5 -2.5,-2.5
Mechanical 15:
  lines w0.05: -3.125,-3.125 -3.125,3.125 3.125,3.125 3.125,-3.125 -3.125,-3.125
3D body "AK4619VN.stp": height 0.8, standoff 0, extent -2.55,-2.55 2.55,2.55

## QFN50P500X500X85_HS-29M [mm] "QFN, 28-Leads, Body 5,00x5,00mm, Pitch 0,50mm, Thermal Pad 3,25x3,25mm, IPC Low Density"
height 0.85
pads (29):
  rect 1.1x0.25 smd: 1(-2.375,1.5) 2(-2.375,1) 3(-2.375,0.5) 4(-2.375,0) 5(-2.375,-0.5) 6(-2.375,-1) 7(-2.375,-1.5) 15(2.375,-1.5) 16(2.375,-1) 17(2.375,-0.5) 18(2.375,0) 19(2.375,0.5) 20(2.375,1) 21(2.375,1.5)
  rect 0.25x1.1 smd: 8(-1.5,-2.375) 9(-1,-2.375) 10(-0.5,-2.375) 11(0,-2.375) 12(0.5,-2.375) 13(1,-2.375) 14(1.5,-2.375) 22(1.5,2.375) 23(1,2.375) 24(0.5,2.375) 25(0,2.375) 26(-0.5,2.375) 27(-1,2.375) 28(-1.5,2.375)
  rect 3.25x3.25 smd: 29(0,0)
via 1.1,-1.1 diameter 0.5 hole 0.2
via 0,-1.1 diameter 0.5 hole 0.2
via -1.1,-1.1 diameter 0.5 hole 0.2
via 1.1,0 diameter 0.5 hole 0.2
via 0,0 diameter 0.5 hole 0.2
via -1.1,0 diameter 0.5 hole 0.2
via 1.1,1.1 diameter 0.5 hole 0.2
via 0,1.1 diameter 0.5 hole 0.2
via -1.1,1.1 diameter 0.5 hole 0.2
Top Overlay:
  circle w0.25: c-3.3,2.5 r0.125
  lines w0.2: -2.65,-2.025 -2.65,-2.65 -2.025,-2.65 ; -2.65,2.025 -2.65,2.65 -2.025,2.65 ; 2.025,-2.65 2.65,-2.65 2.65,-2.025 ; 2.025,2.65 2.65,2.65 2.65,2.025
Mechanical 13:
  circle w0.1: c-1.6,1.6 r0.5
  lines w0.1: -2.5,-2.5 2.5,-2.5 2.5,2.5 -2.5,2.5 -2.5,-2.5
Mechanical 15:
  lines w0.05: -3.425,-3.425 3.425,-3.425 3.425,3.425 -3.425,3.425 -3.425,-3.425
  lines w0.1: -0.5,0 0.5,0 ; 0,-0.5 0,0.5
3D body "QFN50P500X500X85_HS-29M.step": height 0.85, standoff 0, extent -2.55,-2.55 2.55,2.55

## QFN50P500X500X100-32N [mm] "QFN, 32-Leads, Body 5.2x5.2mm (max), Pitch 0.50mm, IPC Medium Density"
height 1
pads (32):
  oval 0.75x0.25 smd: 1(-2.475,1.75) 2(-2.475,1.25) 3(-2.475,0.75) 4(-2.475,0.25) 5(-2.475,-0.25) 6(-2.475,-0.75) 7(-2.475,-1.25) 8(-2.475,-1.75) 17(2.475,-1.75) 18(2.475,-1.25) 19(2.475,-0.75) 20(2.475,-0.25) 21(2.475,0.25) 22(2.475,0.75) 23(2.475,1.25) 24(2.475,1.75)
  oval 0.25x0.75 smd: 9(-1.75,-2.475) 10(-1.25,-2.475) 11(-0.75,-2.475) 12(-0.25,-2.475) 13(0.25,-2.475) 14(0.75,-2.475) 15(1.25,-2.475) 16(1.75,-2.475) 25(1.75,2.475) 26(1.25,2.475) 27(0.75,2.475) 28(0.25,2.475) 29(-0.25,2.475) 30(-0.75,2.475) 31(-1.25,2.475) 32(-1.75,2.475)
Top Overlay:
  lines w0.127: -2.6,-2.125 -2.6,-2.6 -2.125,-2.6 ; -2.6,2.125 -2.6,2.25 -2.25,2.6 -2.125,2.6 ; 2.125,-2.6 2.6,-2.6 2.6,-2.125 ; 2.125,2.6 2.6,2.6 2.6,2.125
  text "." at -3.23,1.75 h0.05
Top Solder:
  rectangle: -1.75,2.25 1.75,2.75
  region: -2.25,-1.75 -2.25,1.75 -2.75,1.75 -2.75,-1.75
  region: 1.75,-2.25 -1.75,-2.25 -1.75,-2.75 1.75,-2.75
  region: 2.25,1.75 2.25,-1.75 2.75,-1.75 2.75,1.75
Mechanical 13:
  circle w0.05: c-2.173,1.75 r0.125
  lines w0.05: -2.575,-1.875 -2.595,-1.875 -2.595,-1.625 -2.575,-1.625 ; -2.575,-1.375 -2.595,-1.375 -2.595,-1.125 -2.575,-1.125 ; -2.575,-0.875 -2.595,-0.875 -2.595,-0.625 -2.575,-0.625 ; -2.575,-0.375 -2.595,-0.375 -2.595,-0.125 -2.575,-0.125 ; -2.575,0.125 -2.595,0.125 -2.595,0.375 -2.575,0.375 ; -2.575,0.625 -2.595,0.625 -2.595,0.875 -2.575,0.875 ; -2.575,1.125 -2.595,1.125 -2.595,1.375 -2.575,1.375 ; -2.575,1.625 -2.595,1.625 -2.595,1.875 -2.575,1.875 ; -1.875,-2.575 -1.875,-2.595 -1.625,-2.595 -1.625,-2.575 ; -1.875,2.575 -1.875,2.595 -1.625,2.595 -1.625,2.575 ; -1.375,-2.575 -1.375,-2.595 -1.125,-2.595 -1.125,-2.575 ; -1.375,2.575 -1.375,2.595 -1.125,2.595 -1.125,2.575 ; -0.875,-2.575 -0.875,-2.595 -0.625,-2.595 -0.625,-2.575 ; -0.875,2.575 -0.875,2.595 -0.625,2.595 -0.625,2.575 ; -0.375,-2.575 -0.375,-2.595 -0.125,-2.595 -0.125,-2.575 ; -0.375,2.575 -0.375,2.595 -0.125,2.595 -0.125,2.575 ; 0.125,-2.575 0.125,-2.595 0.375,-2.595 0.375,-2.575 ; 0.125,2.575 0.125,2.595 0.375,2.595 0.375,2.575 ; 0.625,-2.575 0.625,-2.595 0.875,-2.595 0.875,-2.575 ; 0.625,2.575 0.625,2.595 0.875,2.595 0.875,2.575 ; 1.125,-2.575 1.125,-2.595 1.375,-2.595 1.375,-2.575 ; 1.125,2.575 1.125,2.595 1.375,2.595 1.375,2.575 ; 1.625,-2.575 1.625,-2.595 1.875,-2.595 1.875,-2.575 ; 1.625,2.575 1.625,2.595 1.875,2.595 1.875,2.575 ; 2.575,-1.875 2.595,-1.875 2.595,-1.625 2.575,-1.625 ; 2.575,-1.375 2.595,-1.375 2.595,-1.125 2.575,-1.125 ; 2.575,-0.875 2.595,-0.875 2.595,-0.625 2.575,-0.625 ; 2.575,-0.375 2.595,-0.375 2.595,-0.125 2.575,-0.125 ; 2.575,0.125 2.595,0.125 2.595,0.375 2.575,0.375 ; 2.575,0.625 2.595,0.625 2.595,0.875 2.575,0.875 ; 2.575,1.125 2.595,1.125 2.595,1.375 2.575,1.375 ; 2.575,1.625 2.595,1.625 2.595,1.875 2.575,1.875 ; -2.575,-2.575 -2.575,2.575 2.575,2.575 2.575,-2.575 -2.575,-2.575
Mechanical 15:
  lines w0.127: -3.1,-3.1 3.1,-3.1 3.1,3.1 -3.1,3.1 -3.1,-3.1
3D body "QFN50P500X500X100-32N.STEP": height 1, standoff 0, extent -2.595,-2.595 2.595,2.595